# EAGLE library part FFC2B15 (library passifier)
20-pin 0.5mm pitch FPC connector Global Connector Technology Ltd. - FFC2B15 : FPC 0.5mm Pitch Side Entry, Top Contact, SMT, Height=2.0mm, ZIF, Slide Type
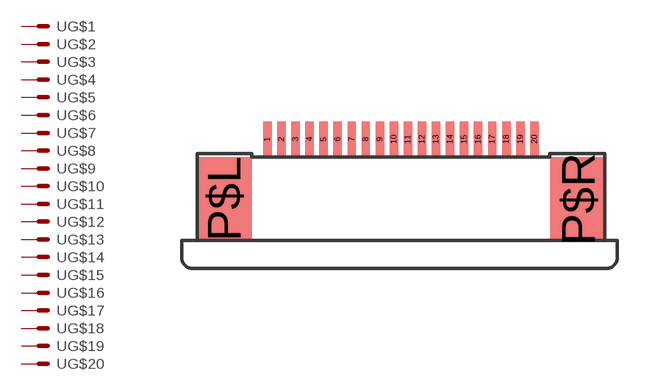
[diagram p3: symbol with the pads of FFC2B15; footprint FFC2B15]

Designator prefix -; gates G$1=M G$2=M G$3=M G$4=M G$5=M G$6=M G$7=M G$8=M G$9=M G$10=M G$11=M G$12=M G$13=M G$14=M G$15=M G$16=M G$17=M G$18=M G$19=M G$20=M

## FFC2B15 (ELEMENT14: 1890971)  [FFC2B15]
1  G$1:S  pas
2  G$2:S  pas
3  G$3:S  pas
4  G$4:S  pas
5  G$5:S  pas
6  G$6:S  pas
7  G$7:S  pas
8  G$8:S  pas
9  G$9:S  pas
10  G$10:S  pas
11  G$11:S  pas
12  G$12:S  pas
13  G$13:S  pas
14  G$14:S  pas
15  G$15:S  pas
16  G$16:S  pas
17  G$17:S  pas
18  G$18:S  pas
19  G$19:S  pas
20  G$20:S  pas

## Footprint FFC2B15 (pad centres in mm)
FPC 0.5mm Pitch female ZIF recepticle SMT Global Connector Technology Ltd. - FFC2B15 : FPC 0.5mm Pitch Side Entry, Top Contact, SMT, Height=2.0mm, ZIF, Slide Type This is a Flexible Printed Circuitry (FPC) connector recepticle.
smd 0.3 x 1.27: 1 -4.75,0; 2 -4.25,0; 3 -3.75,0; 4 -3.25,0; 5 -2.75,0; 6 -2.25,0; 7 -1.75,0; 8 -1.25,0; 9 -0.75,0; 10 -0.25,0; 11 0.25,0; 12 0.75,0; 13 1.25,0; 14 1.75,0; 15 2.25,0; 16 2.75,0; 17 3.25,0; 18 3.75,0; 19 4.25,0; 20 4.75,0
smd 2 x 3: P$L -6.3,-2.125; P$R 6.3,-2.125